# Altium footprint library conn_7pin_TSW-107-05-G-D.PcbLib: 1 footprints
Each footprint in its own frame and in the unit in brackets; x right, y up, seen from the top. Pads: shape width x height; smd on the part's side, far side on the other; paste and mask are expansions set on the pad; w line width, h text height; cw(c..) or ccw(c..) is an arc to the next point about the centre after c.
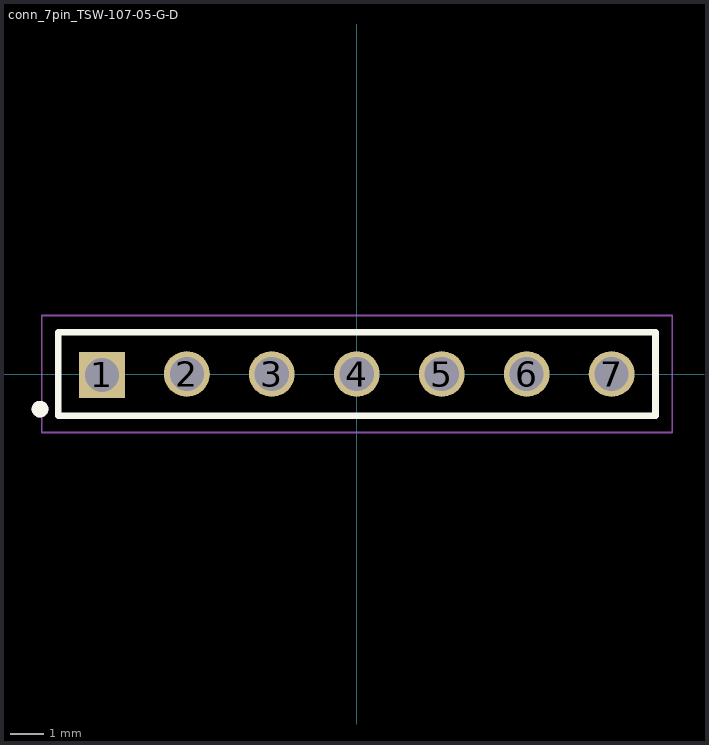
[diagram p0: the footprint, top view; thin cyan lines are the x and y axes]

## conn_7pin_TSW-107-05-G-D [mm] "2.54mm pitch, 7 pin, terminal strip; straight, single row"
height 2.54
pads (7):
  rect 1.37x1.37 hole 1.02 mask+0: 1(-7.62,-0.025)
  round 1.37 hole 1.02 mask+0: 2(-5.08,0) 3(-2.54,0) 4(0,0) 5(2.54,0) 6(5.08,0) 7(7.62,0)
Top Overlay:
  circle w0.25: c-9.47,-1.05 r0.125
  lines w0.2: -8.92,-1.25 -8.92,1.25 8.93,1.25 8.93,-1.25 -8.92,-1.25
Mechanical 12:
  lines w0.001: -8.92,-1.25 -8.92,1.25 8.93,1.25 8.93,-1.25 -8.92,-1.25
Mechanical 13:
  circle w0.25: c-9.47,-1.05 r0.125
  lines w0.1: -8.92,-1.25 -8.92,1.25 8.93,1.25 8.93,-1.25 -8.92,-1.25
  text ".Designator" at 0,0 h1.52
Mechanical 15:
  lines w0.05: -9.42,-1.75 -9.42,1.75 9.43,1.75 9.43,-1.75 -9.42,-1.75
3D body "conn_7pin_TSW-107-05-G-S.stp": height 5.21, standoff -3.3, extent -8.89,-1.27 9.017,1.27